# Altium schematic symbol library Deutsch ICT Con - DTF13-6P.SchLib: 1 symbol
Pins are listed as number, name and electrical type; pins without a type are passive.

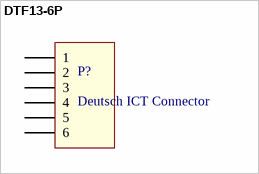
[diagram p0: symbol DTF13-6P]

## DTF13-6P
designator P?, comment Deutsch ICT Connector
CONN HEADER R/A 6POS 4.44MM; ComponentLink1Description: Digikey; ComponentLink1URL: https://www.digikey.ca/product-detail/en/te-connectivity-deutsch-ict-connectors/DTF13-6P/1734-1754-ND/7387532; Supplier 1: Digi-Key; Supplier Part Number 1: 1734-1754-ND
footprint DTF13-6P (CONN HEADER R/A 6POS 4.44MM)
pins: 1, 2, 3, 4, 5, 6